# Altium footprint library PROC051C_PCB.PcbLib: 65 footprints (part 2 of 5)
Each footprint in its own frame and in the unit in brackets; x right, y up, seen from the top. Pads: shape width x height; smd on the part's side, far side on the other; paste and mask are expansions set on the pad; w line width, h text height; cw(c..) or ccw(c..) is an arc to the next point about the centre after c.
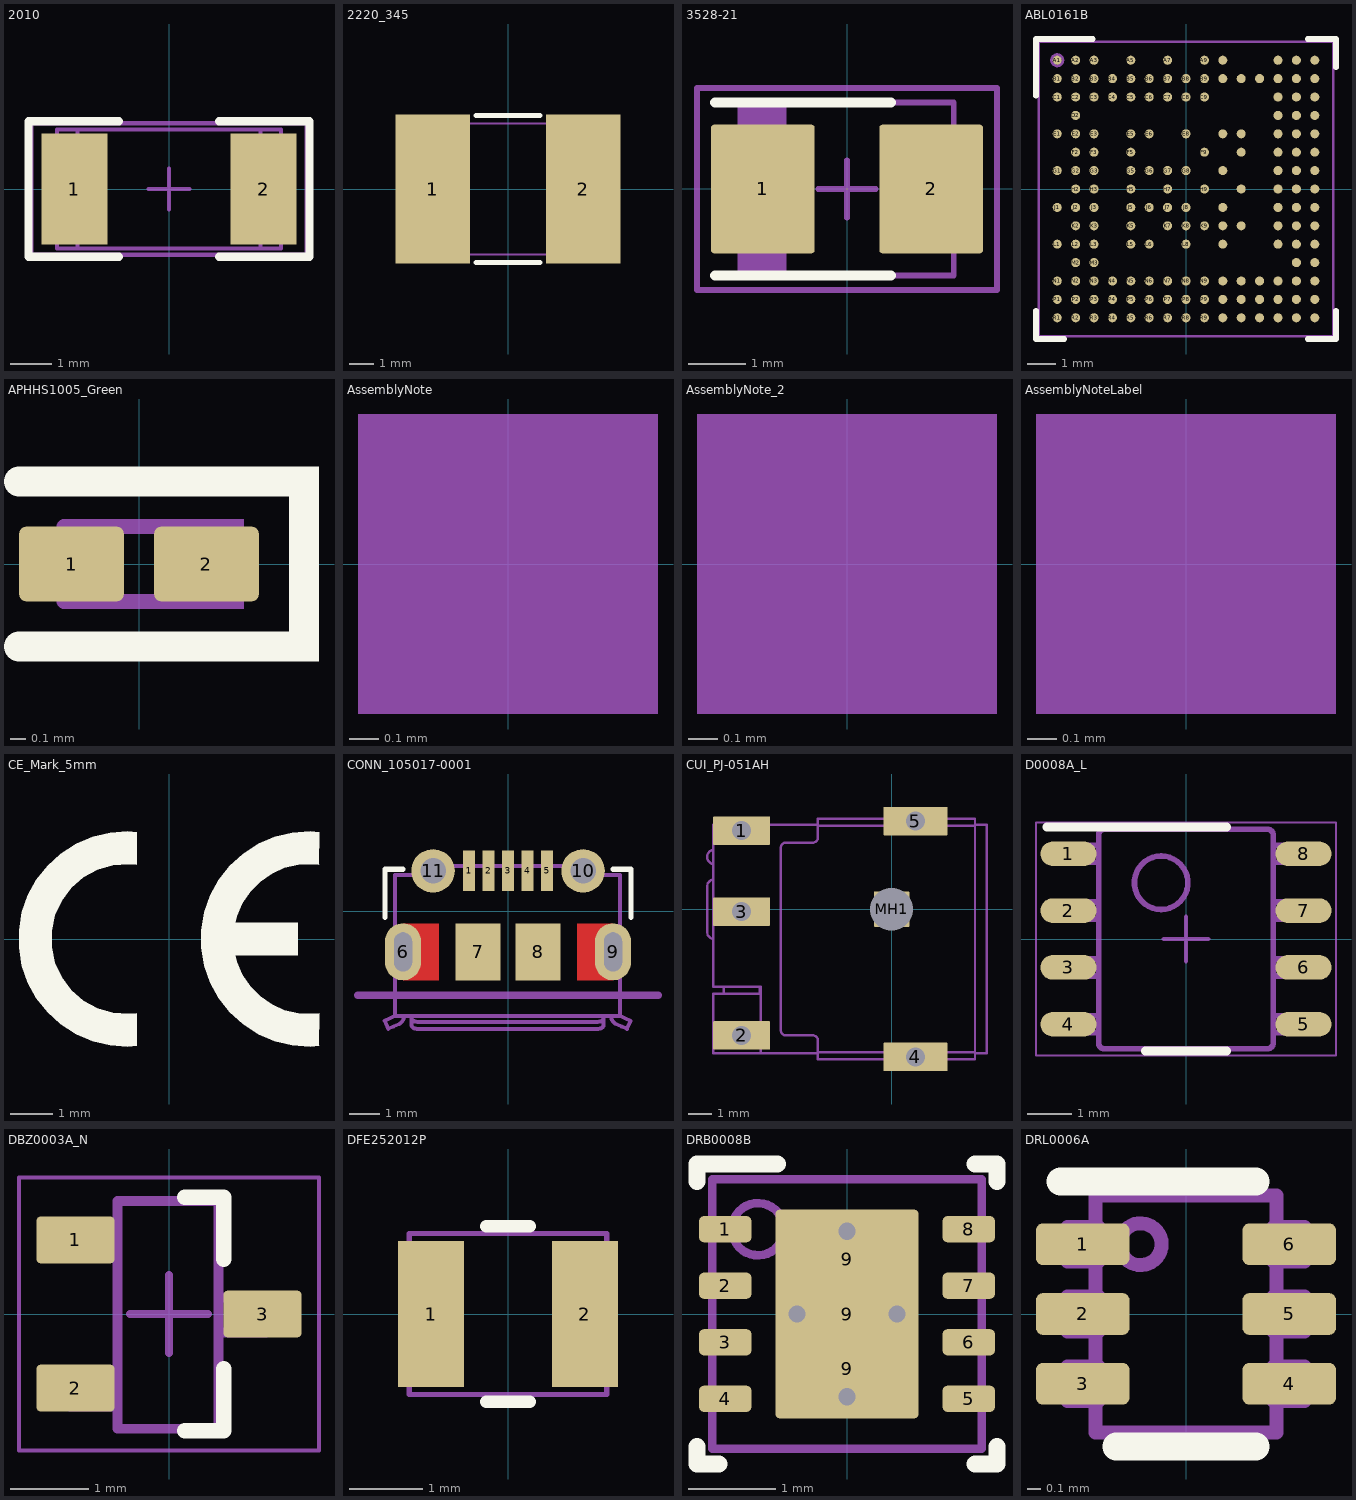
[diagram p1: the footprints below, top view; thin cyan lines are the x and y axes]

## 2010 [mm] "Chip Capacitor, Body 5.08x2.54mm, IPC Medium Density"
height 1.66
pads (2):
  rect 1.6x2.7 smd: 1(-2.3,0) 2(2.3,0)
Top Overlay:
  lines w0.2: -1.219,-1.65 -3.419,-1.65 -3.419,1.65 -1.219,1.65 ; 1.219,-1.65 3.419,-1.65 3.419,1.65 1.219,1.65
Mechanical 5:
  lines w0.1: -2.73,-1.45 -2.73,1.45 2.73,1.45 2.73,-1.45 -2.73,-1.45
  text ".Designator" at -1.875,-0.5 h1.02
Mechanical 14:
  lines w0.1: -2.23,-1.45 -2.23,1.45 ; 2.23,-1.45 2.23,1.45 ; -2.73,-1.45 2.73,-1.45 2.73,1.45 -2.73,1.45 -2.73,-1.45
Mechanical 16:
  lines w0.1: -0.5,0 0.5,0 ; 0,-0.5 0,0.5 ; -3.35,-1.6 3.35,-1.6 3.35,1.6 -3.35,1.6 -3.35,-1.6
3D body: height 1.66, standoff 0, extent -2.729,-1.449 -2.231,1.449
3D body: height 1.66, standoff 0, extent -2.229,-1.449 2.229,1.449
3D body: height 1.66, standoff 0, extent 2.231,-1.449 2.729,1.449

## 2220_345 [mm] "Wurth recommended land pattern"
height 3.45
pads (2):
  rrect3% 3.05x6.1 smd: 1(-3.075,0) 2(3.075,0)
Top Overlay:
  lines w0.2: -1.3,-3 1.3,-3 ; -1.3,3 1.3,3
Mechanical 5:
  lines w0.1: -3.055,-2.675 -3.055,2.675 3.055,2.675 3.055,-2.675 -3.055,-2.675
  text ".Designator" at 1.651,0.011 h1.85
3D body "2220_345.stp": height 3.21, standoff 0.01, extent -2.795,-2.54 2.795,2.54

## 3528-21 [mm] "Medium Density IPC, based on Kemet datasheet 2016-10-20"
height 2.1
pads (2):
  rrect6% 1.8x2.23 smd: 1(-1.46,0) 2(1.46,0)
Top Overlay:
  lines w0.178: -2.286,-1.5 0.762,-1.5 ; -2.286,1.5 0.762,1.5
Mechanical 5:
  rectangle: -1.85,-1.5 -1.1,1.5
  lines w0.1: -1.1,-1.5 -1.1,1.5 ; -1.85,-1.5 -1.85,1.5 1.85,1.5 1.85,-1.5 -1.85,-1.5
  text ".Designator" at -0.619,-0.45 h1.2
Mechanical 15:
  lines w0.1: -0.5,0 0.5,0 ; 0,-0.5 0,0.5 ; -2.6,-1.75 2.6,-1.75 2.6,1.75 -2.6,1.75 -2.6,-1.75
3D body "3528-21.stp": height 2.12, standoff 0.01, extent -1.85,-1.5 1.85,1.5

## ABL0161B [mm] "BGA, 161-Balls, Body 10.4x10.4mm, Pitch 0.65mm"
height 1.17
pads (161):
  round 0.32 smd: A1(-4.55,4.55) A2(-3.9,4.55) A3(-3.25,4.55) A5(-1.95,4.55) A7(-0.65,4.55) A9(0.65,4.55) A10(1.3,4.55) A13(3.25,4.55) A14(3.9,4.55) A15(4.55,4.55) B1(-4.55,3.9) B2(-3.9,3.9) B3(-3.25,3.9) B4(-2.6,3.9) B5(-1.95,3.9) B6(-1.3,3.9) B7(-0.65,3.9) B8(0,3.9) B9(0.65,3.9) B10(1.3,3.9) B11(1.95,3.9) B12(2.6,3.9) B13(3.25,3.9) B14(3.9,3.9) B15(4.55,3.9) C1(-4.55,3.25) C2(-3.9,3.25) C3(-3.25,3.25) C4(-2.6,3.25) C5(-1.95,3.25) C6(-1.3,3.25) C7(-0.65,3.25) C8(0,3.25) C9(0.65,3.25) C13(3.25,3.25) C14(3.9,3.25) C15(4.55,3.25) D2(-3.9,2.6) D13(3.25,2.6) D14(3.9,2.6) D15(4.55,2.6) E1(-4.55,1.95) E2(-3.9,1.95) E3(-3.25,1.95) E5(-1.95,1.95) E6(-1.3,1.95) E8(0,1.95) E10(1.3,1.95) E11(1.95,1.95) E13(3.25,1.95) E14(3.9,1.95) E15(4.55,1.95) F2(-3.9,1.3) F3(-3.25,1.3) F5(-1.95,1.3) F9(0.65,1.3) F11(1.95,1.3) F13(3.25,1.3) F14(3.9,1.3) F15(4.55,1.3) G1(-4.55,0.65) G2(-3.9,0.65) G3(-3.25,0.65) G5(-1.95,0.65) G6(-1.3,0.65) G7(-0.65,0.65) G8(0,0.65) G10(1.3,0.65) G13(3.25,0.65) G14(3.9,0.65) G15(4.55,0.65) H2(-3.9,0) H3(-3.25,0) H5(-1.95,0) H7(-0.65,0) H9(0.65,0) H11(1.95,0) H13(3.25,0) H14(3.9,0) H15(4.55,0) J1(-4.55,-0.65) J2(-3.9,-0.65) J3(-3.25,-0.65) J5(-1.95,-0.65) J6(-1.3,-0.65) J7(-0.65,-0.65) J8(0,-0.65) J10(1.3,-0.65) J13(3.25,-0.65) J14(3.9,-0.65) J15(4.55,-0.65) K2(-3.9,-1.3) K3(-3.25,-1.3) K5(-1.95,-1.3) K7(-0.65,-1.3) K8(0,-1.3) K9(0.65,-1.3) K10(1.3,-1.3) K11(1.95,-1.3) K13(3.25,-1.3) K14(3.9,-1.3) K15(4.55,-1.3) L1(-4.55,-1.95) L2(-3.9,-1.95) L3(-3.25,-1.95) L5(-1.95,-1.95) L6(-1.3,-1.95) L8(0,-1.95) L10(1.3,-1.95) L13(3.25,-1.95) L14(3.9,-1.95) L15(4.55,-1.95) M2(-3.9,-2.6) M3(-3.25,-2.6) M14(3.9,-2.6) M15(4.55,-2.6) N1(-4.55,-3.25) N2(-3.9,-3.25) N3(-3.25,-3.25) N4(-2.6,-3.25) N5(-1.95,-3.25) N6(-1.3,-3.25) N7(-0.65,-3.25) N8(0,-3.25) N9(0.65,-3.25) N10(1.3,-3.25) N11(1.95,-3.25) N12(2.6,-3.25) N13(3.25,-3.25) N14(3.9,-3.25) N15(4.55,-3.25) P1(-4.55,-3.9) P2(-3.9,-3.9) P3(-3.25,-3.9) P4(-2.6,-3.9) P5(-1.95,-3.9) P6(-1.3,-3.9) P7(-0.65,-3.9) P8(0,-3.9) P9(0.65,-3.9) P10(1.3,-3.9) P11(1.95,-3.9) P12(2.6,-3.9) P13(3.25,-3.9) P14(3.9,-3.9) P15(4.55,-3.9) R1(-4.55,-4.55) R2(-3.9,-4.55) R3(-3.25,-4.55) R4(-2.6,-4.55) R5(-1.95,-4.55) R6(-1.3,-4.55) R7(-0.65,-4.55) R8(0,-4.55) R9(0.65,-4.55) R10(1.3,-4.55) R11(1.95,-4.55) R12(2.6,-4.55) R13(3.25,-4.55) R14(3.9,-4.55) R15(4.55,-4.55)
Top Overlay:
  lines w0.2: -5.3,-4.3 -5.3,-5.3 -4.3,-5.3 ; -5.3,3.3 -5.3,5.3 -3.3,5.3 ; 4.3,-5.3 5.3,-5.3 5.3,-4.3 ; 4.3,5.3 5.3,5.3 5.3,4.3
Mechanical 5:
  circle w0.1: c-4.55,4.55 r0.2
  lines w0.1: -5.2,-5.2 5.2,-5.2 5.2,5.2 -5.2,5.2 -5.2,-5.2
  text ".Designator" at 1.157,0.759 h1.02
3D body: height 1.17, standoff 0, extent 4.3,4.3 5.301,5.301
3D body: height 1.17, standoff 0, extent -5.4,-5.4 5.4,5.4

## APHHS1005_Green [mm] "SMD, 2-Leads, Body 1x0.5mm"
height 0.6
pads (2):
  rrect20% 0.7x0.5 smd: 1(-0.45,0) 2(0.45,0)
Top Overlay:
  rectangle: 1,-0.65 1.2,0.65
  lines w0.2: -0.8,-0.55 1,-0.55 ; -0.8,0.55 1,0.55
Mechanical 5:
  rectangle: 0.5,-0.3 0.7,0.3
  lines w0.1: -0.5,-0.25 -0.4,-0.25 0.4,-0.25 0.5,-0.25 0.5,0.25 0.4,0.25 -0.4,0.25 -0.5,0.25 -0.5,-0.25
  text ".Designator" at -0.296,-0.157 h0.3
3D body: height 0.5, standoff 0.5, extent 0,-0.1 0.1,0.1
3D body "APHHS1005.stp": height 0.5, standoff 0, extent -0.5,-0.25 0.5,0.25

## AssemblyNote [mm] "Assembly Note"
Mechanical 5:
  rectangle: -0.508,-0.508 0.508,0.508
  text ".Designator" at -4.191,-0.508 h1.02
  text ".Comment" at 1.143,-0.508 h1.02

## AssemblyNote_2 [mm]
Mechanical 5:
  rectangle: -0.508,-0.508 0.508,0.508
  text ".Comment" at 1.143,-0.508 h1.02
  text ".Designator" at -4.191,-0.508 h1.02

## AssemblyNoteLabel [mm] "Assembly Note for PCB Labels"
Mechanical 5:
  rectangle: -0.508,-0.508 0.508,0.508
  text ".Designator" at -4.191,-0.508 h1.02
  text "Install label in silkscreened box after final wash.  Text shall be 8 pt font.  Text shall be per the Label Table in the PDF schematic." at 1.143,-0.508 h1.02

## CE_Mark_5mm [mm] "Minimum text height for CE Mark"
Top Overlay:
  region: -0.75,-2.487 -0.958,-2.508 -1.376,-2.48 -1.783,-2.383 -2.169,-2.22 -2.522,-1.994 -2.832,-1.714 -3.092,-1.385 -3.293,-1.018 -3.43,-0.622 -3.5,-0.209 -3.5,0.209 -3.43,0.622 -3.293,1.018 -3.092,1.385 -2.832,1.714 -2.522,1.994 -2.169,2.22 -1.783,2.383 -1.376,2.48 -0.958,2.508 -0.75,2.487 -0.75,1.732 -0.937,1.749 -1.31,1.722 -1.669,1.617 -1.998,1.438 -2.281,1.193 -2.505,0.893 -2.66,0.553 -2.74,0.187 -2.74,-0.187 -2.66,-0.553 -2.505,-0.893 -2.281,-1.193 -1.998,-1.438 -1.669,-1.617 -1.31,-1.722 -0.937,-1.749 -0.75,-1.732
  region: 3.5,-1.732 3.337,-1.748 3.01,-1.733 2.691,-1.658 2.392,-1.525 2.123,-1.339 1.894,-1.106 1.712,-0.834 1.583,-0.533 1.541,-0.375 3,-0.375 3,0.375 1.541,0.375 1.583,0.533 1.712,0.834 1.894,1.106 2.123,1.339 2.392,1.525 2.691,1.658 3.01,1.733 3.337,1.748 3.5,1.732 3.5,2.487 3.292,2.508 2.874,2.48 2.467,2.383 2.081,2.22 1.728,1.994 1.418,1.714 1.158,1.385 0.957,1.018 0.82,0.622 0.75,0.209 0.75,-0.209 0.82,-0.622 0.957,-1.018 1.158,-1.385 1.418,-1.714 1.728,-1.994 2.081,-2.22 2.467,-2.383 2.874,-2.48 3.292,-2.508 3.5,-2.487

## CONN_105017-0001 [mm] "Molex Micro USB-B"
height 2.9
pads (11):
  rect 0.4x1.35 smd: 1(-1.3,1.35) 2(-0.65,1.35) 3(0,1.35) 4(0.65,1.35) 5(1.3,1.35)
  oval 1.2x1.9 hole 0.6 slot 1.3 at 90 deg: 6(-3.5,-1.35) 9(3.5,-1.35)
  rect 1.5x1.9 smd: 7(-1,-1.35) 8(1,-1.35)
  round 1.45 hole 0.85: 10(2.5,1.35) 11(-2.5,1.35)
Top Layer:
  region: 3.5,-0.4 2.3,-0.4 2.3,-2.3 3.5,-2.3
  rectangle: -3.5,-2.3 -2.3,-0.4
Top Overlay:
  lines w0.178: -4.1,-0.2 -4.1,1.4 -3.5,1.4 ; 3.5,1.4 4.1,1.4 4.1,-0.2
Top Paste:
  rectangle: -3.2,-2.3 -2.3,-0.4
  region: 3.2,-0.4 2.3,-0.4 2.3,-2.3 3.2,-2.3
Mechanical 1:
  lines w0.254: -5,-2.8 5,-2.8
Mechanical 5:
  drawing of 162 lines, arcs and shapes, not listed
  text ".Designator" at -1.194,-1.212 h1.02
3D body "Molex_1050170001.stp": height 2.72, standoff -0.58, extent -4.1,-3.93 4.1,1.5

## CUI_PJ-051AH [mm] "DC Power Jack, R/A, TH"
height 7.4
pads (6):
  rrect8% 2.4x1.2 hole 0.8 square: 1(-6.3,3.3) 2(-6.3,-5.3) 3(-6.3,-0.1)
  rrect8% 2.7x1.2 hole 0.8 square: 4(1,-6.2) 5(1,3.7)
  rrect7% 1.5x1.5 hole 1.8 square unplated mask+0.102: MH1(0,0)
Mechanical 5:
  lines w0.1: -7.5,-1.246 cw(c-7.45,-0.95) -7.75,-0.95 -7.75,0.95 cw(c-7.45,0.95) -7.5,1.246 ; -7.5,1.904 cw(c-7.45,2.2) -7.5,2.496 ; -7.05,-3.25 -7.05,-3.55 -5.55,-3.55 -5.55,-3.25 ; -5.5,-3.55 -7.5,-3.55 -7.5,-6.05 -5.5,-6.05 ; -3.1,-6.05 -5.5,-6.05 ; -3.1,3.55 -7.5,3.55 -7.5,-3.25 -5.5,-3.25 -5.5,-6.05 ; 3.5,-6.05 4,-6.05 4,3.55 3.5,3.55 ; -3.1,-6 -3.1,-6.3 3.5,-6.3 3.5,-6 ; -3.1,-6 -3.1,-5.5 ccw(c-3.3,-5.5) -3.3,-5.3 -4.45,-5.3 cw(c-4.45,-5.1) -4.65,-5.1 -4.65,2.6 cw(c-4.45,2.6) -4.45,2.8 -3.3,2.8 ccw(c-3.3,3) -3.1,3 -3.1,3.5 ; -3.1,-6 3.5,-6 ; -3.1,3.5 -3.1,3.8 3.5,3.8 3.5,3.5 ; -3.1,3.5 3.5,3.5 ; 3.5,-6 3.5,3.5
  text ".Designator" at -2.343,-1.635 h1.02
3D body "PJ-051AH.stp": height 7.31, standoff -2.49, extent -7.75,-6.3 4,3.8

## D0008A_L [mm] "SOIC, 8-Leads, Body 4.9x3.9mm, Pitch 1.27mm, IPC High Density"
height 1.75
pads (8):
  oval 1.25x0.55 smd: 1(-2.625,1.905) 2(-2.625,0.635) 3(-2.625,-0.635) 4(-2.625,-1.905) 5(2.625,-1.905) 6(2.625,-0.635) 7(2.625,0.635) 8(2.625,1.905)
Top Overlay:
  lines w0.2: -3.1,2.5 0.9,2.5 ; -0.9,-2.5 0.9,-2.5
Mechanical 5:
  lines w0.127: -2.375,-2.095 -2.375,-1.715 ; -2.375,-2.095 -2.589,-2.095 -3.002,-2.095 -3.002,-1.715 -2.589,-1.715 -2.375,-1.715 ; -2.375,-2.095 -1.995,-2.095 -1.952,-2.095 -1.952,-1.715 -1.995,-1.715 -2.375,-1.715 ; -2.375,-0.825 -2.375,-0.445 ; -2.375,-0.825 -2.589,-0.825 -3.002,-0.825 -3.002,-0.445 -2.589,-0.445 -2.375,-0.445 ; -2.375,-0.825 -1.995,-0.825 -1.952,-0.825 -1.952,-0.445 -1.995,-0.445 -2.375,-0.445 ; -2.375,0.445 -2.375,0.825 ; -2.375,0.445 -2.589,0.445 -3.002,0.445 -3.002,0.825 -2.589,0.825 -2.375,0.825 ; -2.375,0.445 -1.995,0.445 -1.952,0.445 -1.952,0.825 -1.995,0.825 -2.375,0.825 ; -2.375,1.715 -2.375,2.095 ; -2.375,1.715 -2.589,1.715 -3.002,1.715 -3.002,2.095 -2.589,2.095 -2.375,2.095 ; -2.375,1.715 -1.995,1.715 -1.952,1.715 -1.952,2.095 -1.995,2.095 -2.375,2.095 ; -0.332,-2.45 -0.182,-2.45 ; -0.332,-2.45 -0.182,-2.45 ; -0.332,-2.45 -1.825,-2.45 -1.826,-2.45 cw(c-1.825,-2.323) -1.952,-2.324 -1.952,-2.323 -1.952,2.323 -1.952,2.324 cw(c-1.825,2.323) -1.826,2.45 -1.825,2.45 -0.332,2.45 ; -0.332,2.45 -0.182,2.45 ; -0.332,2.45 -0.182,2.45 ; -0.182,-2.45 0.178,-2.45 ; -0.182,2.45 0.178,2.45 ; 0.178,-2.45 0.328,-2.45 ; 0.178,-2.45 0.328,-2.45 ; 0.178,2.45 0.328,2.45 ; 0.178,2.45 0.328,2.45 ; 0.328,-2.45 1.821,-2.45 1.822,-2.45 ccw(c1.821,-2.323) 1.948,-2.324 1.948,-2.323 1.948,2.323 1.948,2.324 ccw(c1.821,2.323) 1.822,2.45 1.821,2.45 0.328,2.45 ; 2.371,-2.095 2.371,-1.715 ; 2.371,-2.095 1.991,-2.095 1.948,-2.095 1.948,-1.715 1.991,-1.715 2.371,-1.715 ; 2.371,-2.095 2.585,-2.095 2.998,-2.095 2.998,-1.715 2.585,-1.715 2.371,-1.715 ; 2.371,-0.825 2.371,-0.445 ; 2.371,-0.825 1.991,-0.825 1.948,-0.825 1.948,-0.445 1.991,-0.445 2.371,-0.445 ; 2.371,-0.825 2.585,-0.825 2.998,-0.825 2.998,-0.445 2.585,-0.445 2.371,-0.445 ; 2.371,0.445 2.371,0.825 ; 2.371,0.445 1.991,0.445 1.948,0.445 1.948,0.825 1.991,0.825 2.371,0.825 ; 2.371,0.445 2.585,0.445 2.998,0.445 2.998,0.825 2.585,0.825 2.371,0.825 ; 2.371,1.715 2.371,2.095 ; 2.371,1.715 1.991,1.715 1.948,1.715 1.948,2.095 1.991,2.095 2.371,2.095 ; 2.371,1.715 2.585,1.715 2.998,1.715 2.998,2.095 2.585,2.095 2.371,2.095 ; -0.555,0.659 ccw(c-0.555,1.256) -0.555,1.853 ccw(c-0.555,1.256) -0.555,0.659
  text ".Designator" at 0.152,-1.1 h0.89
Mechanical 15:
  lines w0.05: -3.35,-2.6 3.35,-2.6 3.35,2.6 -3.35,2.6 -3.35,-2.6
  lines w0.1: -0.5,0 0.5,0 ; 0,-0.5 0,0.5
3D body "D0008A.stp": height 1.63, standoff 0, extent -3,-2.45 3,2.45

## DBZ0003A_N [mm] "SOT23, 3-Leads, Body 2.9x1.3mm, Pitch 0.95mm, Lead Span 2.4mm, IPC Medium Density"
height 1.12
pads (3):
  rrect17% 1x0.6 smd: 1(-1.2,0.95) 2(-1.2,-0.95) 3(1.2,0)
Top Overlay:
  lines w0.2: 0.2,-1.5 0.7,-1.5 0.7,-0.7 ; 0.2,1.5 0.7,1.5 0.7,0.7
Mechanical 5:
  lines w0.127: -1.27,-1.187 -1.063,-1.187 -1.005,-1.187 -0.814,-1.187 -0.66,-1.187 -0.66,-0.743 -0.814,-0.743 -1.005,-0.743 -1.063,-0.743 -1.27,-0.743 -1.27,-1.187 ; -1.27,0.718 -1.063,0.718 -1.005,0.718 -0.814,0.718 -0.66,0.718 -0.66,1.162 -0.814,1.162 -1.005,1.162 -1.063,1.162 -1.27,1.162 -1.27,0.718 ; -0.66,-1.473 0.635,-1.473 0.635,1.448 -0.66,1.448 -0.66,-1.473 ; 0.635,-0.235 0.635,0.21 0.789,0.21 0.98,0.21 1.037,0.21 1.245,0.21 1.245,-0.235 1.037,-0.235 0.98,-0.235 0.789,-0.235 0.635,-0.235
  text ".Designator" at -0.404,-0.18 h0.51
Mechanical 16:
  lines w0.05: -1.925,-1.75 -1.925,1.75 1.925,1.75 1.925,-1.75 -1.925,-1.75
  lines w0.1: -0.5,0 0.5,0 ; 0,-0.5 0,0.5
3D body "DBZ0003A.stp": height 0.98, standoff 0, extent -1.257,-1.46 1.257,1.461

## DFE252012P [mm] "TOKO, Pad sizes increased as per request"
height 1.2
pads (2):
  rect 0.9x2 smd: 1(-1.05,0) 2(1.05,0)
Top Overlay:
  lines w0.17: -0.3,-1.2 0.3,-1.2 ; -0.3,1.2 0.3,1.2
Mechanical 5:
  lines w0.07: -1.35,-1.1 1.35,-1.1 1.35,1.1 -1.35,1.1 -1.35,-1.1
  text ".Designator" at 0.511,0.353 h0.7
3D body: height 1.2, standoff 0, extent -0.599,-1.099 0.599,1.099
3D body: height 1.2, standoff 0, extent 0.601,-1.099 1.349,1.099
3D body: height 1.2, standoff 0, extent -1.349,-1.099 -0.601,1.099

## DRB0008B [mm] "SON, 8-Leads, Body 3x3mm, Pitch 0.65mm, Thermal Pad 2.4x1.65mm, TI Recommended"
height 1
pads (11):
  rrect33% 0.6x0.3 smd: 1(-1.4,0.975) 2(-1.4,0.325) 3(-1.4,-0.325) 4(-1.4,-0.975) 5(1.4,-0.975) 6(1.4,-0.325) 7(1.4,0.325) 8(1.4,0.975)
  rrect50% 1.47x1.06 on Top Paste: 9(0,-0.63) 9(0,0.63)
  rrect6% 1.65x2.4 smd paste-1.2: 9(0,0)
via -0.575,0 diameter 0.5 hole 0.2
via 0.575,0 diameter 0.5 hole 0.2
via 0,0.95 diameter 0.5 hole 0.2
via 0,-0.95 diameter 0.5 hole 0.2
Top Overlay:
  lines w0.2: -1.725,-1.525 -1.725,-1.725 -1.475,-1.725 ; -1.725,1.525 -1.725,1.725 -0.8,1.725 ; 1.475,-1.725 1.725,-1.725 1.725,-1.525 ; 1.475,1.725 1.725,1.725 1.725,1.525
Mechanical 5:
  circle w0.1: c-1.025,0.975 r0.3
  lines w0.1: -1.55,-1.55 -1.55,1.55 1.55,1.55 1.55,-1.55 -1.55,-1.55
  text ".Designator" at -1.397,-0.889 h0.76
3D body "DRB0008B.stp": height 0.96, standoff 0.01, extent -1.5,-1.5 1.5,1.5

## DRL0006A [mm] "SOTFL, 6-Flat Leads, Body 1.2x1.6x0.6mm, Pitch 0.5mm, TI recommended"
height 0.6
pads (6):
  rrect33% 0.67x0.3 smd: 1(-0.74,0.5) 2(-0.74,0) 3(-0.74,-0.5) 4(0.74,-0.5) 5(0.74,0) 6(0.74,0.5)
Top Overlay:
  lines w0.2: -0.9,0.95 0.5,0.95 ; -0.5,-0.95 0.5,-0.95
Mechanical 5:
  circle w0.1: c-0.325,0.5 r0.15
  lines w0.1: -0.65,-0.625 -0.65,-0.85 0.65,-0.85 0.65,-0.625 ; -0.65,-0.375 -0.65,-0.125 ; -0.65,0.125 -0.65,0.375 ; -0.65,0.625 -0.65,0.85 0.65,0.85 0.65,0.625 ; 0.65,-0.375 0.65,0.375 ; -0.85,-0.625 -0.627,-0.625 -0.627,-0.375 -0.85,-0.375 -0.85,-0.625 ; -0.85,-0.125 -0.85,0.125 -0.627,0.125 -0.627,-0.125 -0.85,-0.125 ; -0.85,0.375 -0.627,0.375 -0.627,0.625 -0.85,0.625 -0.85,0.375 ; 0.627,-0.625 0.85,-0.625 0.85,-0.375 0.627,-0.375 0.627,-0.625 ; 0.627,-0.125 0.627,0.125 0.85,0.125 0.85,-0.125 0.627,-0.125 ; 0.627,0.375 0.85,0.375 0.85,0.625 0.627,0.625 0.627,0.375
  text ".Designator" at -0.445,-0.251 h0.65
3D body "DRL0006A.stp": height 0.61, standoff 0.01, extent -0.8,-0.8 0.8,0.8